# EAGLE library part 610*10243021 (library power_distribution)
10-Pin Bottom Entry Connector from Würth Elektronik
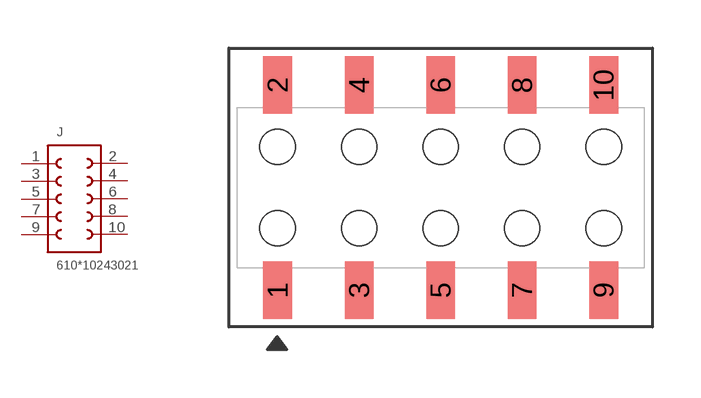
[diagram p0: symbol with the pads of 610X10243021; footprint 610X10243021]

Designator prefix J

## 61010243021, 610010243021 (MF: Würth Elektronik; MPN: 610010243021), 610310243021 (MF: Würth Elektronik; MPN: 610310243021)  [610X10243021]
1  1  pas
2  10  pas
3  2  pas
4  9  pas
5  3  pas
6  8  pas
7  4  pas
8  7  pas
9  5  pas
10  6  pas

## Footprint 610X10243021 (pad centres in mm)
WR-PHD 2.54mm SMT Dual Socket Header Bottom Entry, 10 Pins
smd 0.9 x 1.8: 1 -5.08,-3.2; 2 -5.08,3.2; 3 -2.54,-3.2; 4 -2.54,3.2; 5 0,-3.2; 6 0,3.2; 7 2.54,-3.2; 8 2.54,3.2; 9 5.08,-3.2; 10 5.08,3.2
hole 1.1 at -5.08,1.27
hole 1.1 at -2.54,1.27
hole 1.1 at -2.54,-1.27
hole 1.1 at -5.08,-1.27
hole 1.1 at 0,1.27
hole 1.1 at 0,-1.27
hole 1.1 at 2.54,1.27
hole 1.1 at 2.54,-1.27
hole 1.1 at 5.08,-1.27
hole 1.1 at 5.08,1.27